# EAGLE library part MBT3946DW1T1G (library TRANSISTORs)
Bipolar (BJT) Transistor Array NPN, PNP 40V 200mA 300MHz, 250MHz 150mW Surface Mount SC-88/SC70-6/SOT-363
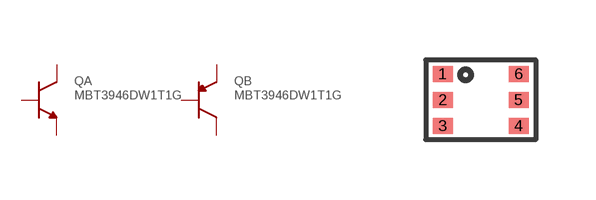
[diagram p3: symbol with the pads of SOT363-NX300; footprint SOT363-NX300]

Designator prefix Q; gates A=NPN B=PNP

## MBT3946DW1T1G (DIGIKEY: MBT3946DW1T1GOSCT-ND; HEIGHT: 1; PRICE_PER: 0.16; VALUE: MBT3946DW)  [SOT363-NX300]
1  A:E
2  A:B
3  B:C
4  B:E
5  B:B
6  A:C

## Footprint SOT363-NX300 (pad centres in mm)
smd 0.5 x 0.4: 1 -0.95,0.65; 2 -0.95,0; 3 -0.95,-0.65; 4 0.95,-0.65; 5 0.95,0; 6 0.95,0.65